# Altium integrated library TI_kbd_pcb.IntLib: 98 symbols
Pins are listed as number, name and electrical type; pins without a type are passive.

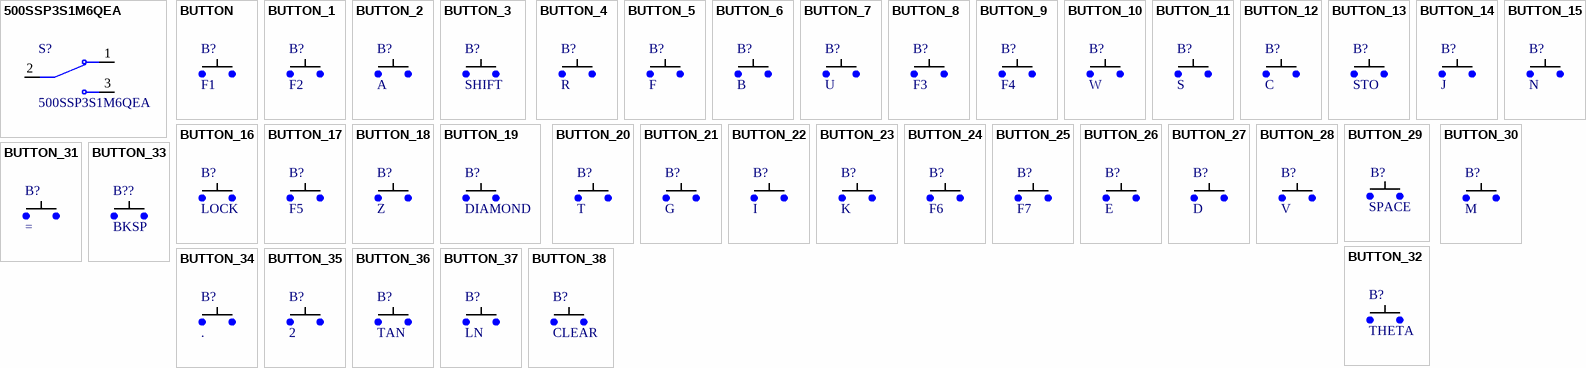
[diagram p0: symbols 500SSP3S1M6QEA to BUTTON_38]

## 500SSP3S1M6QEA
designator S?
Price: None; MP: 500SSP3S1M6QEA; Availability: Unavailable; Value: *; Package: None
footprint SW_500SSP3S1M6QEA
pins: 1 NC, 2 COM, 3 NO

## BUTTON
designator B?, comment F1
Contact pads to match TI-92 PCB patterns for carbon contact button
footprint 6mm_button_contacts
footprint D_PAD_BUTTON
pins: 1, 2

## BUTTON_1
designator B?, comment F2
Contact pads to match TI-92 PCB patterns for carbon contact button
footprint 6mm_button_contacts
footprint D_PAD_BUTTON
pins: 1, 2

## BUTTON_2
designator B?, comment A
Contact pads to match TI-92 PCB patterns for carbon contact button
footprint 6mm_button_contacts
footprint D_PAD_BUTTON
pins: 1, 2

## BUTTON_3
designator B?, comment SHIFT
Contact pads to match TI-92 PCB patterns for carbon contact button
footprint 6mm_button_contacts
footprint D_PAD_BUTTON
pins: 1, 2

## BUTTON_4
designator B?, comment R
Contact pads to match TI-92 PCB patterns for carbon contact button
footprint 6mm_button_contacts
footprint D_PAD_BUTTON
pins: 1, 2

## BUTTON_5
designator B?, comment F
Contact pads to match TI-92 PCB patterns for carbon contact button
footprint 6mm_button_contacts
footprint D_PAD_BUTTON
pins: 1, 2

## BUTTON_6
designator B?, comment B
Contact pads to match TI-92 PCB patterns for carbon contact button
footprint 6mm_button_contacts
footprint D_PAD_BUTTON
pins: 1, 2

## BUTTON_7
designator B?, comment U
Contact pads to match TI-92 PCB patterns for carbon contact button
footprint 6mm_button_contacts
footprint D_PAD_BUTTON
pins: 1, 2

## BUTTON_8
designator B?, comment F3
Contact pads to match TI-92 PCB patterns for carbon contact button
footprint 6mm_button_contacts
footprint D_PAD_BUTTON
pins: 1, 2

## BUTTON_9
designator B?, comment F4
Contact pads to match TI-92 PCB patterns for carbon contact button
footprint 6mm_button_contacts
footprint D_PAD_BUTTON
pins: 1, 2

## BUTTON_10
designator B?, comment W
Contact pads to match TI-92 PCB patterns for carbon contact button
footprint 6mm_button_contacts
footprint D_PAD_BUTTON
pins: 1, 2

## BUTTON_11
designator B?, comment S
Contact pads to match TI-92 PCB patterns for carbon contact button
footprint 6mm_button_contacts
footprint D_PAD_BUTTON
pins: 1, 2

## BUTTON_12
designator B?, comment C
Contact pads to match TI-92 PCB patterns for carbon contact button
footprint 6mm_button_contacts
footprint D_PAD_BUTTON
pins: 1, 2

## BUTTON_13
designator B?, comment STO
Contact pads to match TI-92 PCB patterns for carbon contact button
footprint 6mm_button_contacts
footprint D_PAD_BUTTON
pins: 1, 2

## BUTTON_14
designator B?, comment J
Contact pads to match TI-92 PCB patterns for carbon contact button
footprint 6mm_button_contacts
footprint D_PAD_BUTTON
pins: 1, 2

## BUTTON_15
designator B?, comment N
Contact pads to match TI-92 PCB patterns for carbon contact button
footprint 6mm_button_contacts
footprint D_PAD_BUTTON
pins: 1, 2

## BUTTON_16
designator B?, comment LOCK
Contact pads to match TI-92 PCB patterns for carbon contact button
footprint 6mm_button_contacts
footprint D_PAD_BUTTON
pins: 1, 2

## BUTTON_17
designator B?, comment F5
Contact pads to match TI-92 PCB patterns for carbon contact button
footprint 6mm_button_contacts
footprint D_PAD_BUTTON
pins: 1, 2

## BUTTON_18
designator B?, comment Z
Contact pads to match TI-92 PCB patterns for carbon contact button
footprint 6mm_button_contacts
footprint D_PAD_BUTTON
pins: 1, 2

## BUTTON_19
designator B?, comment DIAMOND
Contact pads to match TI-92 PCB patterns for carbon contact button
footprint 6mm_button_contacts
footprint D_PAD_BUTTON
pins: 1, 2

## BUTTON_20
designator B?, comment T
Contact pads to match TI-92 PCB patterns for carbon contact button
footprint 6mm_button_contacts
footprint D_PAD_BUTTON
pins: 1, 2

## BUTTON_21
designator B?, comment G
Contact pads to match TI-92 PCB patterns for carbon contact button
footprint 6mm_button_contacts
footprint D_PAD_BUTTON
pins: 1, 2

## BUTTON_22
designator B?, comment I
Contact pads to match TI-92 PCB patterns for carbon contact button
footprint 6mm_button_contacts
footprint D_PAD_BUTTON
pins: 1, 2

## BUTTON_23
designator B?, comment K
Contact pads to match TI-92 PCB patterns for carbon contact button
footprint 6mm_button_contacts
footprint D_PAD_BUTTON
pins: 1, 2

## BUTTON_24
designator B?, comment F6
Contact pads to match TI-92 PCB patterns for carbon contact button
footprint 6mm_button_contacts
footprint D_PAD_BUTTON
pins: 1, 2

## BUTTON_25
designator B?, comment F7
Contact pads to match TI-92 PCB patterns for carbon contact button
footprint 6mm_button_contacts
footprint D_PAD_BUTTON
pins: 1, 2

## BUTTON_26
designator B?, comment E
Contact pads to match TI-92 PCB patterns for carbon contact button
footprint 6mm_button_contacts
footprint D_PAD_BUTTON
pins: 1, 2

## BUTTON_27
designator B?, comment D
Contact pads to match TI-92 PCB patterns for carbon contact button
footprint 6mm_button_contacts
footprint D_PAD_BUTTON
pins: 1, 2

## BUTTON_28
designator B?, comment V
Contact pads to match TI-92 PCB patterns for carbon contact button
footprint 6mm_button_contacts
footprint D_PAD_BUTTON
pins: 1, 2

## BUTTON_29
designator B?, comment SPACE
Contact pads to match TI-92 PCB patterns for carbon contact button
footprint 6mm_button_contacts
footprint D_PAD_BUTTON
pins: 1, 2

## BUTTON_30
designator B?, comment M
Contact pads to match TI-92 PCB patterns for carbon contact button
footprint 6mm_button_contacts
footprint D_PAD_BUTTON
pins: 1, 2

## BUTTON_31
designator B?
Contact pads to match TI-92 PCB patterns for carbon contact button
footprint 6mm_button_contacts
footprint D_PAD_BUTTON
pins: 1, 2

## BUTTON_32
designator B?, comment THETA
Contact pads to match TI-92 PCB patterns for carbon contact button
footprint 6mm_button_contacts
footprint D_PAD_BUTTON
pins: 1, 2

## BUTTON_33
designator B??, comment BKSP
Contact pads to match TI-92 PCB patterns for carbon contact button
footprint 6mm_button_contacts
footprint D_PAD_BUTTON
pins: 1, 2

## BUTTON_34
designator B?, comment .
Contact pads to match TI-92 PCB patterns for carbon contact button
footprint 6mm_button_contacts
footprint D_PAD_BUTTON
pins: 1, 2

## BUTTON_35
designator B?, comment 2
Contact pads to match TI-92 PCB patterns for carbon contact button
footprint 6mm_button_contacts
footprint D_PAD_BUTTON
pins: 1, 2

## BUTTON_36
designator B?, comment TAN
Contact pads to match TI-92 PCB patterns for carbon contact button
footprint 6mm_button_contacts
footprint D_PAD_BUTTON
pins: 1, 2

## BUTTON_37
designator B?, comment LN
Contact pads to match TI-92 PCB patterns for carbon contact button
footprint 6mm_button_contacts
footprint D_PAD_BUTTON
pins: 1, 2

## BUTTON_38
designator B?, comment CLEAR
Contact pads to match TI-92 PCB patterns for carbon contact button
footprint 6mm_button_contacts
footprint D_PAD_BUTTON
pins: 1, 2

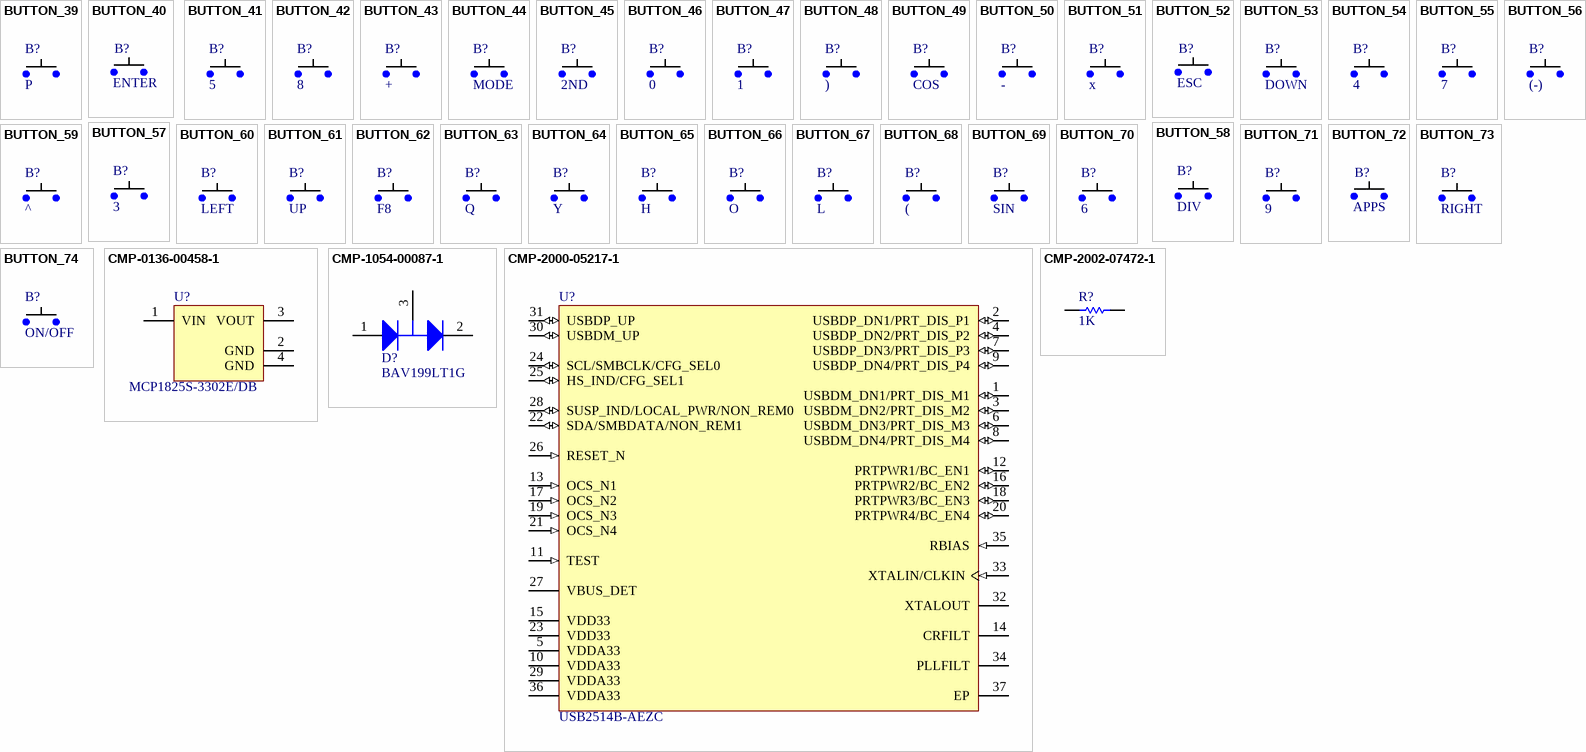
[diagram p1: symbols BUTTON_39 to CMP-2002-07472-1]

## BUTTON_39
designator B?, comment P
Contact pads to match TI-92 PCB patterns for carbon contact button
footprint 6mm_button_contacts
footprint D_PAD_BUTTON
pins: 1, 2

## BUTTON_40
designator B?, comment ENTER
Contact pads to match TI-92 PCB patterns for carbon contact button
footprint 6mm_button_contacts
footprint D_PAD_BUTTON
pins: 1, 2

## BUTTON_41
designator B?, comment 5
Contact pads to match TI-92 PCB patterns for carbon contact button
footprint 6mm_button_contacts
footprint D_PAD_BUTTON
pins: 1, 2

## BUTTON_42
designator B?, comment 8
Contact pads to match TI-92 PCB patterns for carbon contact button
footprint 6mm_button_contacts
footprint D_PAD_BUTTON
pins: 1, 2

## BUTTON_43
designator B?, comment +
Contact pads to match TI-92 PCB patterns for carbon contact button
footprint 6mm_button_contacts
footprint D_PAD_BUTTON
pins: 1, 2

## BUTTON_44
designator B?, comment MODE
Contact pads to match TI-92 PCB patterns for carbon contact button
footprint 6mm_button_contacts
footprint D_PAD_BUTTON
pins: 1, 2

## BUTTON_45
designator B?, comment 2ND
Contact pads to match TI-92 PCB patterns for carbon contact button
footprint 6mm_button_contacts
footprint D_PAD_BUTTON
pins: 1, 2

## BUTTON_46
designator B?, comment 0
Contact pads to match TI-92 PCB patterns for carbon contact button
footprint 6mm_button_contacts
footprint D_PAD_BUTTON
pins: 1, 2

## BUTTON_47
designator B?, comment 1
Contact pads to match TI-92 PCB patterns for carbon contact button
footprint 6mm_button_contacts
footprint D_PAD_BUTTON
pins: 1, 2

## BUTTON_48
designator B?, comment )
Contact pads to match TI-92 PCB patterns for carbon contact button
footprint 6mm_button_contacts
footprint D_PAD_BUTTON
pins: 1, 2

## BUTTON_49
designator B?, comment COS
Contact pads to match TI-92 PCB patterns for carbon contact button
footprint 6mm_button_contacts
footprint D_PAD_BUTTON
pins: 1, 2

## BUTTON_50
designator B?, comment -
Contact pads to match TI-92 PCB patterns for carbon contact button
footprint 6mm_button_contacts
footprint D_PAD_BUTTON
pins: 1, 2

## BUTTON_51
designator B?, comment x
Contact pads to match TI-92 PCB patterns for carbon contact button
footprint 6mm_button_contacts
footprint D_PAD_BUTTON
pins: 1, 2

## BUTTON_52
designator B?, comment ESC
Contact pads to match TI-92 PCB patterns for carbon contact button
footprint 6mm_button_contacts
footprint D_PAD_BUTTON
pins: 1, 2

## BUTTON_53
designator B?, comment DOWN
Contact pads to match TI-92 PCB patterns for carbon contact button
footprint 6mm_button_contacts
footprint D_PAD_BUTTON
pins: 1, 2

## BUTTON_54
designator B?, comment 4
Contact pads to match TI-92 PCB patterns for carbon contact button
footprint 6mm_button_contacts
footprint D_PAD_BUTTON
pins: 1, 2

## BUTTON_55
designator B?, comment 7
Contact pads to match TI-92 PCB patterns for carbon contact button
footprint 6mm_button_contacts
footprint D_PAD_BUTTON
pins: 1, 2

## BUTTON_56
designator B?, comment (-)
Contact pads to match TI-92 PCB patterns for carbon contact button
footprint 6mm_button_contacts
footprint D_PAD_BUTTON
pins: 1, 2

## BUTTON_57
designator B?, comment 3
Contact pads to match TI-92 PCB patterns for carbon contact button
footprint 6mm_button_contacts
footprint D_PAD_BUTTON
pins: 1, 2

## BUTTON_58
designator B?, comment DIV
Contact pads to match TI-92 PCB patterns for carbon contact button
footprint 6mm_button_contacts
footprint D_PAD_BUTTON
pins: 1, 2

## BUTTON_59
designator B?, comment ^
Contact pads to match TI-92 PCB patterns for carbon contact button
footprint 6mm_button_contacts
footprint D_PAD_BUTTON
pins: 1, 2

## BUTTON_60
designator B?, comment LEFT
Contact pads to match TI-92 PCB patterns for carbon contact button
footprint 6mm_button_contacts
footprint D_PAD_BUTTON
pins: 1, 2

## BUTTON_61
designator B?, comment UP
Contact pads to match TI-92 PCB patterns for carbon contact button
footprint 6mm_button_contacts
footprint D_PAD_BUTTON
pins: 1, 2

## BUTTON_62
designator B?, comment F8
Contact pads to match TI-92 PCB patterns for carbon contact button
footprint 6mm_button_contacts
footprint D_PAD_BUTTON
pins: 1, 2

## BUTTON_63
designator B?, comment Q
Contact pads to match TI-92 PCB patterns for carbon contact button
footprint 6mm_button_contacts
footprint D_PAD_BUTTON
pins: 1, 2

## BUTTON_64
designator B?, comment Y
Contact pads to match TI-92 PCB patterns for carbon contact button
footprint 6mm_button_contacts
footprint D_PAD_BUTTON
pins: 1, 2

## BUTTON_65
designator B?, comment H
Contact pads to match TI-92 PCB patterns for carbon contact button
footprint 6mm_button_contacts
footprint D_PAD_BUTTON
pins: 1, 2

## BUTTON_66
designator B?, comment O
Contact pads to match TI-92 PCB patterns for carbon contact button
footprint 6mm_button_contacts
footprint D_PAD_BUTTON
pins: 1, 2

## BUTTON_67
designator B?, comment L
Contact pads to match TI-92 PCB patterns for carbon contact button
footprint 6mm_button_contacts
footprint D_PAD_BUTTON
pins: 1, 2

## BUTTON_68
designator B?, comment (
Contact pads to match TI-92 PCB patterns for carbon contact button
footprint 6mm_button_contacts
footprint D_PAD_BUTTON
pins: 1, 2

## BUTTON_69
designator B?, comment SIN
Contact pads to match TI-92 PCB patterns for carbon contact button
footprint 6mm_button_contacts
footprint D_PAD_BUTTON
pins: 1, 2

## BUTTON_70
designator B?, comment 6
Contact pads to match TI-92 PCB patterns for carbon contact button
footprint 6mm_button_contacts
footprint D_PAD_BUTTON
pins: 1, 2

## BUTTON_71
designator B?, comment 9
Contact pads to match TI-92 PCB patterns for carbon contact button
footprint 6mm_button_contacts
footprint D_PAD_BUTTON
pins: 1, 2

## BUTTON_72
designator B?, comment APPS
Contact pads to match TI-92 PCB patterns for carbon contact button
footprint 6mm_button_contacts
footprint D_PAD_BUTTON
pins: 1, 2

## BUTTON_73
designator B?, comment RIGHT
Contact pads to match TI-92 PCB patterns for carbon contact button
footprint 6mm_button_contacts
footprint D_PAD_BUTTON
pins: 1, 2

## BUTTON_74
designator B?, comment ON/OFF
Contact pads to match TI-92 PCB patterns for carbon contact button
footprint 6mm_button_contacts
footprint D_PAD_BUTTON
pins: 1, 2

## CMP-0136-00458-1
designator U?, comment MCP1825S-3302E/DB
500 mA, Low Voltage, Low Quiescent Current LDO Regulator, 3-Pin SOT-223, Extended Temperature; Manufacturer: Microchip; PackageReference: SOT-223-DB3; PackageDescription: 3-Lead Plastic Small Outline Transistor (DB) [SOT-223]; PackageVersion: revBB, Aug-2009; DatasheetVersion: revB, Feb-2008; Manufacturer Part Number: MCP1825S-3302E/DB
footprint SOT-223-DB3_N (SOT223, 4-Leads, Body 6.5x3.5mm, Pitch 2.3mm, Lead Span 7mm, IPC Medium Density)
footprint SOT-223-DB3_L (SOT223, 4-Leads, Body 6.5x3.5mm, Pitch 2.3mm, Lead Span 7mm, IPC High Density)
footprint SOT-223-DB3_M (SOT223, 4-Leads, Body 6.5x3.5mm, Pitch 2.3mm, Lead Span 7mm, IPC Low Density)
pins: 1 VIN (power), 2 GND (power), 3 VOUT (power), 4 GND (power)

## CMP-1054-00087-1
designator D?, comment BAV199LT1G
Dual Series Switching Diodes, 3-Pin SOT-23, Pb-Free, Tape and Reel; Manufacturer: On Semiconductor; IF Max (A): 0.215; trr Max (ns): 3000; PartNumber: BAV199LT1G; RoHS: TRUE; ComponentLink1Description: Manufacturer URL; ComponentLink2URL: http://www.onsemi.com/pub_link/Collateral/BAV199LT1-D.PDF; Mounting Technology: Surface Mount; ComponentLink2Description: Datasheet; ComponentLink3Description: Package Specification; PackageReference: SOT-23-3-318-08; PackageVersion: Rev. AP, 11/2009; Packing: Tape and Reel; DatasheetVersion: Rev. 8; Configuration: Dual Series; ComponentLink1URL: http://www.onsemi.com/; ComponentLink3URL: http://www.onsemi.cn/pub_link/Collateral/318-08.PDF; PackageDescription: 3-Pin Small Outline Transistor, Body 2.92 x 1.3 mm, Pitch 0.95 mm; Manufacturer: ON Semiconductor; Manufacturer Part Number: BAV199LT1G
footprint ONSC-SOT-23-3-318-08_V (SOT23, 3-Leads, Body 2.92x1.3mm, Pitch 0.95mm)
pins: 1 A, 2 K, 3 K/A

## CMP-2000-05217-1
designator U?, comment USB2514B-AEZC
USB 2.0 High-Speed Hub Controller, 4 Ports, 3 to 3.6 V, 0 to 85 degC, 36-Pin QFN, RoHS, Tray; Manufacturer: Microchip; Interface: I²CEEPROM,SMBus(2-Wire,I²C); Other Names: 638-1122; Voltage - Supply: 3V~3.6V; Current - Supply: 70mA; Manufacturer URL: http://www.microchip.com/; Packaging: Tray; Function: -; Standards: -; Category: IntegratedCircuits(ICs); Package / Case: 36-VFQFNExposedPad; Supplier Device Package: 36-QFN(6x6); Family: Interface-Controllers; Datasheet Version: DS00001692C, 10/2015; Standard Package: 490; Series: -; Protocol: -; Datasheet URL: http://ww1.microchip.com/downloads/en/DeviceDoc/00001692C.pdf; Operating Temperature: -; Manufacturer Part Number: USB2514B-AEZC
footprint MCHP-QFN-36_V (QFN, 36-Leads, Body 6.00x6.00mm, Pitch 0.50mm, Thermal Pad 3.70x3.70mm)
pins: 1 USBDM_DN1/PRT_DIS_M1 (io), 2 USBDP_DN1/PRT_DIS_P1 (io), 3 USBDM_DN2/PRT_DIS_M2 (io), 4 USBDP_DN2/PRT_DIS_P2 (io), 5 VDDA33 (power) "3.3 V Analog Power", 6 USBDM_DN3/PRT_DIS_M3 (io), 7 USBDP_DN3/PRT_DIS_P3 (io), 8 USBDM_DN4/PRT_DIS_M4 (io), 9 USBDP_DN4/PRT_DIS_P4 (io), 10 VDDA33 (power) "3.3 V Analog Power", 11 TEST (in) "Test Pin: treat as a no connect pin or connect to ground. No trace or signal should be routed or attached to this pin.", 12 PRTPWR1/BC_EN1 (io), 13 OCS_N1 (in) "Over-Current Sense: input from external current monitor indicating an overcurrent condition.", 14 CRFILT "VDD Core Regulator Filter Capacitor: this pin can have up to a 0.1 uF low-ESR capacitor to VSS, or be left unconnected.", 15 VDD33 (power) "3.3 V Digital Power", 16 PRTPWR2/BC_EN2 (io), 17 OCS_N2 (in) "Over-Current Sense: input from external current monitor indicating an overcurrent condition.", 18 PRTPWR3/BC_EN3 (io), 19 OCS_N3 (in) "Over-Current Sense: input from external current monitor indicating an overcurrent condition.", 20 PRTPWR4/BC_EN4 (io), 21 OCS_N4 (in) "Over-Current Sense: input from external current monitor indicating an overcurrent condition.", 22 SDA/SMBDATA/NON_REM1 (io), 23 VDD33 (power) "3.3 V Digital Power", 24 SCL/SMBCLK/CFG_SEL0 (io), 25 HS_IND/CFG_SEL1 (io), 26 RESET_N (in) "RESET Input: the system can reset the chip by driving this input low. The minimum active low pulse is 1 us.", 27 VBUS_DET (power) "Detect Upstream VBUS Power: detects the state of the upstream VBUS power. The SMSC hub monitors VBUS_DET to determine when to assert the internal D+ pull-up resistor: (signaling a connect event). When designing a detachable (See Datasheet)", 28 SUSP_IND/LOCAL_PWR/NON_REM0 (io), 29 VDDA33 (power) "3.3 V Analog Power", 30 USBDM_UP (io) "USB Data: connect to the upstream USB bus data signals (host, port, or upstream hub).", 31 USBDP_UP (io) "USB Data: connect to the upstream USB bus data signals (host, port, or upstream hub).", 32 XTALOUT "Crystal Output: this is the other terminal of the crystal circuit with 1.2 V p-p output and a weak (< 1mA) driving strength. When an external clock source is used to drive XTALIN/CLKIN, leave this pin unconnected, or use (See Datasheet)", 33 XTALIN/CLKIN (in), 34 PLLFILT "PLL Regulator Filter Capacitor: this pin can have up to a 0.1 uF low-ESR capacitor to VSS, or be left unconnected.", 35 RBIAS (in) "USB Transceiver Bias: a 12.0 kohm (+/- 1%) resistor is attached from ground to this pin to set the transceiver’s internal bias settings.", 36 VDDA33 (power) "3.3 V Analog Power", 37 EP (power) "Ground Pad/ePad: the package slug is the only VSS for the device and must be tied to ground with multiple vias."

## CMP-2002-07472-1
designator R?, comment 1K
Part Number: RC0402FR-071KL; Manufacturer: Yageo / Phycomp; Manufacturer: Yageo; Manufacturer Part Number: RC0402FR-071KL
footprint RESC1005X40X25NL05T10 (Chip Resistor, 2-Leads, Body 1.00x0.50mm, IPC Medium Density)
footprint RESC1005X40X25ML05T10 (Chip Resistor, 2-Leads, Body 1.00x0.50mm, IPC Low Density)
footprint RESC1005X40X25LL05T10 (Chip Resistor, 2-Leads, Body 1.00x0.50mm, IPC High Density)
pins: 1, 2
1 alternate drawing of the same symbol

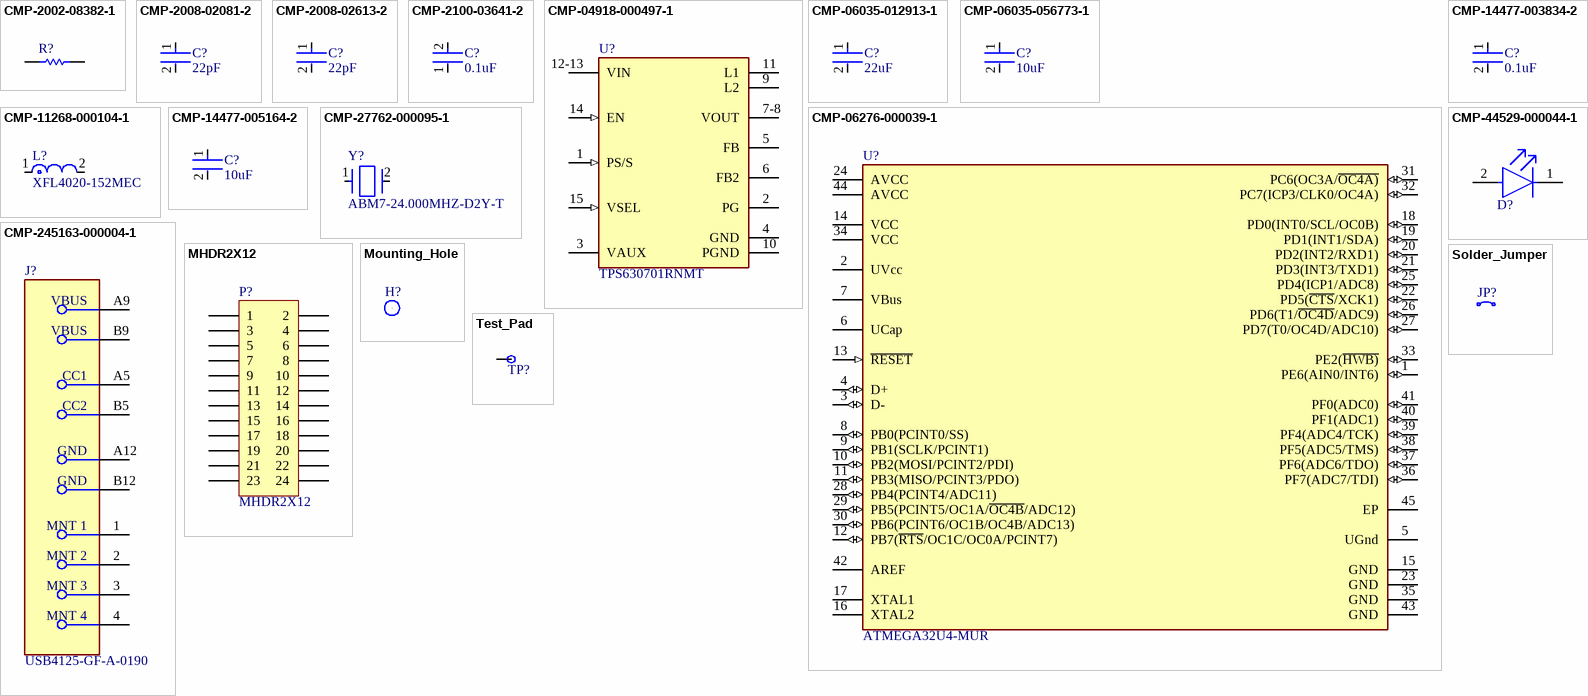
[diagram p2: symbols CMP-2002-08382-1 to Test_Pad]

## CMP-2002-08382-1
designator R?, comment CRCW040222R0FKED  (value not drawn)
Manufacturer: Vishay Dale; Manufacturer: Vishay; Part Number: CRCW040222R0FKED; Manufacturer Part Number: CRCW040222R0FKED
footprint RESC1005X40X25LL05T05 (Chip Resistor, 2-Leads, Body 1.00x0.50mm, IPC High Density)
footprint RESC1005X40X25ML05T05 (Chip Resistor, 2-Leads, Body 1.00x0.50mm, IPC Low Density)
footprint RESC1005X40X25NL05T05 (Chip Resistor, 2-Leads, Body 1.00x0.50mm, IPC Medium Density)
pins: 1, 2
1 alternate drawing of the same symbol

## CMP-2008-02081-2
designator C?, comment 22pF
CAP CER 1UF 10V X5R 0402; Manufacturer: KEMET; Manufacturer Part Number: C0402C105K8PACTU; Dielectric Material: Ceramic; Dissipation Factor: 5%; Tolerance: 10%; Number of Pins: 2; Contact Plating: Tin; Min Operating Temperature: -55°C; Termination: SMD/SMT; Lead Free: Lead Free; Construction: Flat; Voltage Rating (DC): 10V; Mount: Surface Mount; Series: C; Thickness: 0.022inch; Width: 0.5mm; Radiation Hardening: No; Capacitance: 1uF; Dielectric: X5R; Height: 0.5mm; Voltage: 10V; Length: 1mm; Depth: 0.5mm; Max Operating Temperature: 85°C; Package Quantity: 1; Packaging: Tape and Reel; RoHS Compliant: Yes; Case Code (Imperial): 0402; Case Code (Metric): 1005; REACH SVHC: No SVHC; Voltage Rating: 10V; Case/Package: 0402
footprint FP-C0402C105K8PACTU-MFG
footprint FP-C0402C105K8PACTU-IPC_C
footprint FP-C0402C105K8PACTU-IPC_B
footprint FP-C0402C105K8PACTU-IPC_A
pins: 1, 2

## CMP-2008-02613-2
designator C?, comment 22pF
General Purpose Ceramic Capacitor, 0402, 22pF, 5%, C0G, 30ppm/°C, 50V; Manufacturer: Kyocera AVX; Manufacturer Part Number: 04025A220JAT2A; Temperature Coefficient: 30ppm/°C; Mount: Surface Mount; Length: 1mm; Construction: Flat; Contact Plating: Tin; REACH SVHC: No SVHC; Case/Package: 0402; Voltage: 50V; Case Code (Imperial): 0402; Thickness: 0.022inch; Radiation Hardening: No; Number of Pins: 2; Tolerance: 5%; Max Operating Temperature: 125°C; RoHS Compliant: Yes; Voltage Rating: 50V; Case Code (Metric): 1005; Package Quantity: 1; Width: 0.02inch; Termination: SMD/SMT; Lead Free: Lead Free; Height: 0.5mm; Voltage Rating (DC): 50V; Capacitance: 22pF; Min Operating Temperature: -55°C; Series: -; Depth: 0.5mm; Dielectric: C0G; Packaging: Tape and Reel
footprint FP-0402-L_1_0_1-W_0_5_0_1-MFG
footprint FP-0402-L_1_0_1-W_0_5_0_1-IPC_C
footprint FP-0402-L_1_0_1-W_0_5_0_1-IPC_A
footprint FP-0402-L_1_0_1-W_0_5_0_1-IPC_B
pins: 1, 2

## CMP-2100-03641-2
designator C?, comment 0.1uF
CAP CER 0.1UF 16V X7R 0402; Manufacturer Part Number: GRM155R71C104KA88D; Manufacturer: Murata; Standoff Height: 0mm; Tolerance: 10%; Voltage Rating: 16Vdc; Material: Ceramic; Capacitance: 0.10μF; Value: 0.10μF; RoHS: TRUE; Temperature Characteristic: X7R; Octopart: https://octopart.com/grm155r71c104ka88d-murata-196880; Digikey Description: CAP CER 0.1UF 16V X7R 0402; Device Class L3: Ceramic Capacitors; Height: 0.55mm; ComponentLink2Description: Datasheet; Temperature Range Low: -55°C; Ipc Land Pattern Name: CAPC10050X219; ComponentLink2URL: https://search.murata.co.jp/Ceramy/image/img/A01X/G101/ENG/GRM155R71H471KA01-01A.pdf; Device Class L1: Passive Components; Lead Free: yes; Category: Cap; Package: GRM15; Temperature: -55°C to +125°C; Device Class L2: Capacitors; Temperature Range High: +125°C; Mouser Description: 0402 0.1 uF 16V ±10 % Tolerance X7R SMT Multilayer Ceramic Capacitor
footprint FP-GRM15-MFG
footprint FP-GRM15-IPC_C
footprint FP-GRM15-IPC_B
footprint FP-GRM15-IPC_A
pins: 1, 2

## CMP-04918-000497-1
designator U?, comment TPS630701RNMT
IC REG BCK BST 5V 2A 15VQFN; Manufacturer: Texas Instruments; Max Input Voltage: 16V; Switching Frequency: 2.4MHz; Min Input Voltage: 2V; Quiescent Current: 50uA; Topology: Buck-Boost; Output Current: 2A; Number of Pins: 15; Max Operating Temperature: 125°C; Packaging: Cut Tape; Nominal Output Voltage: 5V; REACH SVHC: No SVHC; RoHS Compliant: Yes; Lead Free: Lead Free; Manufacturer Part Number: TPS630701RNMT
footprint FP-RNM0015A-MFG
pins: 1 PS/S (in), 2 PG (oc), 3 VAUX, 4 GND (power), 5 FB, 6 FB2, 7-8 VOUT (power), 9 L2, 10 PGND (power), 11 L1, 12-13 VIN (power), 14 EN (in), 15 VSEL (in)

## CMP-06035-012913-1
designator C?, comment 22uF
Chip Multilayer Ceramic Capacitors for General Purpose, 0805, 22uF, X6S, 22%, 20%, 16V; Manufacturer: Murata; Manufacturer Part Number: GRM21BC81C226ME44L; Packaging: Tape and Reel; Dielectric: X6S; Case Code (Imperial): 0805; Weight: 0.000335oz; Case Code (Metric): 2012; Thickness: 0.057inch; Min Operating Temperature: -55°C; Voltage Rating (DC): 16V; Tolerance: 20%; Width: 1.25mm; Voltage Rating: 16V; Mount: Surface Mount; Capacitance: 22uF; Length: 0.079inch; Lead Free: Lead Free; Case/Package: 0805; Package Quantity: 3000; Height: 1.25mm; Max Operating Temperature: 105°C; Termination: SMD/SMT
footprint FP-GRM21B-0_2-e0_2_0_7-MFG
footprint FP-GRM21B-0_2-e0_2_0_7-IPC_A
footprint FP-GRM21B-0_2-e0_2_0_7-IPC_C
footprint FP-GRM21B-0_2-e0_2_0_7-IPC_B
pins: 1, 2

## CMP-06035-056773-1
designator C?, comment 10uF
Chip Multilayer Ceramic Capacitors for General Purpose, 0805, 10uF, X7S, 22%, 20%, 25V; Manufacturer: Murata; Manufacturer Part Number: GRM21BC71E106ME11L; Case/Package: 0805; Min Operating Temperature: -55°C; Packaging: Tape and Reel; Height: 1.25mm; Thickness: 0.057inch; Weight: 0.000335oz; Termination: SMD/SMT; Capacitance: 10uF; Max Operating Temperature: 125°C; Length: 0.079inch; Dielectric: X7S; Mount: Surface Mount; Voltage Rating (DC): 25V; Case Code (Imperial): 0805; Case Code (Metric): 2012; Voltage Rating: 25V; Tolerance: 20%; Package Quantity: 3000; Width: 0.049inch
footprint FP-GRM21B-0_2-e0_2_0_7-IPC_A
footprint FP-GRM21B-0_2-e0_2_0_7-IPC_C
footprint FP-GRM21B-0_2-e0_2_0_7-IPC_B
footprint FP-GRM21B-0_2-e0_2_0_7-MFG
pins: 1, 2

## CMP-06276-000039-1
designator U?, comment ATMEGA32U4-MUR
IC MCU 8BIT 32KB FLASH 44VQFN; Manufacturer: Microchip; Oscillator Type: Internal; Interface: I2C; Core Architecture: PIC; Number of I/Os: 21; Peripherals: Brown-out Detect/Reset; Packaging: Rail/Tube; Memory Size: 32KB; Memory Type: FLASH; Case/Package: SOIC; Max Operating Temperature: 125°C; Min Operating Temperature: -40°C; Manufacturer Part Number: ATMEGA32U4-MUR
footprint FP-44PW-MFG
footprint FP-44PW-IPC_C
footprint FP-44PW-IPC_B
footprint FP-44PW-IPC_A
pins: 1 PE6(AIN0/INT6) (io), 2 UVcc (power), 3 D- (io), 4 D+ (io), 5 UGnd (power), 6 UCap, 7 VBus (power), 8 PB0(PCINT0/SS) (io), 9 PB1(SCLK/PCINT1) (io), 10 PB2(MOSI/PCINT2/PDI) (io), 11 PB3(MISO/PCINT3/PDO) (io), 12 PB7(~{RTS}/OC1C/OC0A/PCINT7) (io), 13 ~{RESET} (in), 14 VCC (power), 15 GND (power), 16 XTAL2, 17 XTAL1, 18 PD0(INT0/SCL/OC0B) (io), 19 PD1(INT1/SDA) (io), 20 PD2(INT2/RXD1) (io), 21 PD3(INT3/TXD1) (io), 22 PD5(~{CTS}/XCK1) (io), 23 GND (power), 24 AVCC (power), 25 PD4(ICP1/ADC8) (io), 26 PD6(T1/~{OC4D}/ADC9) (io), 27 PD7(T0/OC4D/ADC10) (io), 28 PB4(PCINT4/ADC11) (io), 29 PB5(PCINT5/OC1A/~{OC4B}/ADC12) (io), 30 PB6(PCINT6/OC1B/OC4B/ADC13) (io), 31 PC6(OC3A/~{OC4A)} (io), 32 PC7(ICP3/CLK0/OC4A) (io), 33 PE2(~{HWB)} (io), 34 VCC (power), 35 GND (power), 36 PF7(ADC7/TDI) (io), 37 PF6(ADC6/TDO) (io), 38 PF5(ADC5/TMS) (io), 39 PF4(ADC4/TCK) (io), 40 PF1(ADC1) (io), 41 PF0(ADC0) (io), 42 AREF, 43 GND (power), 44 AVCC (power), 45 EP

## CMP-11268-000104-1
designator L?, comment XFL4020-152MEC
Inductor Power Shielded Wirewound 1.5uH 20% 100KHz 9.1A 15.8mOhm DCR 1515 Automotive Embossed Plastic T/R; Manufacturer: Coilcraft; Core Material: Composite; DC Resistance (DCR): 15.8mR; Saturation Current: 4.1A; Self Resonant Frequency: 59MHz; Tolerance: 20%; Inductance: 1.5uH; Max DC Current: 9.1A; RoHS Compliant: Yes; Max Operating Temperature: 125°C; Length: 4.3mm; Case/Package: SMD/SMT; Mount: Surface Mount; Shielding: Shielded; Min Operating Temperature: -40°C; RMS Current (Irms): 9.1A; Test Frequency: 100kHz; Inductance Tolerance: 20%; REACH SVHC: No SVHC; Packaging: Tape and Reel; Termination: SMD/SMT; Lead Free: Contains Lead; Width: 4.3mm; Series: XFL4020; Height: 2.1mm; Manufacturer Part Number: XFL4020-152MEC
footprint FP-XFL4020-MFG
pins: 1, 2

## CMP-14477-003834-2
designator C?, comment 0.1uF
None; Manufacturer: Taiyo Yuden; Manufacturer Part Number: TMK105B7104MV-FR; Capacitance: 100nF; Voltage Rating: 25V; Tolerance: 20%; Min Operating Temperature: -55°C; Max Operating Temperature: 125°C; Mount: Surface Mount; RoHS Compliant: Yes; Case/Package: 0402; Packaging: Tape and Reel
footprint FP-0402-L_1_0_0_05-W_0_5-IPC_B
simulation model TMK105B7104_V-FR
footprint FP-0402-L_1_0_0_05-W_0_5-MFG
footprint FP-0402-L_1_0_0_05-W_0_5-IPC_A
footprint FP-0402-L_1_0_0_05-W_0_5-IPC_C
pins: 1, 2

## CMP-14477-005164-2
designator C?, comment 10uF
Multilayer Ceramic Capacitor 10uF 25V X5R 20% SMD 0603 T/R; Manufacturer: Taiyo Yuden; Manufacturer Part Number: TMK107BBJ106MA-T; Capacitance: 10uF; Packaging: Tape and Reel; Tolerance: 20%; Mount: Surface Mount; Case Code (Metric): 1608; Case Code (Imperial): 0603; Min Operating Temperature: -55°C; Lead Free: Lead Free; RoHS Compliant: Yes; Case/Package: 0603; Max Operating Temperature: 85°C; Voltage Rating: 25V
footprint FP-0603-L_1_6_0_2-W_0_8_0-MFG
footprint FP-0603-L_1_6_0_2-W_0_8_0-IPC_C
footprint FP-0603-L_1_6_0_2-W_0_8_0-IPC_B
footprint FP-0603-L_1_6_0_2-W_0_8_0-IPC_A
pins: 1, 2

## CMP-27762-000095-1
designator Y?, comment ABM7-24.000MHZ-D2Y-T
Crystal 16MHz ±20ppm 18pF SMD-2 6mm x 3.5mm; Manufacturer: Abracon; Manufacturer Part Number: ABM7-16.000MHZ-D2Y-T; ESR (Equivalent Series Resistance): 50R; Frequency Stability: 30ppm; Width: 3.3mm; Frequency: 16MHz; Radiation Hardening: No; Height: 0.055inch; Tolerance: 20ppm; Length: 6mm; Case/Package: CSMD; Lead Free: Lead Free; Min Operating Temperature: -40°C; Termination: SMD/SMT; Operating Frequency: 16 MHz; Resistor Type: Ceramic; Packaging: Tape and Reel; Mount: Surface Mount; Load Capacitance: 18pF; Frequency Tolerance: 20ppm; Depth: 3.5mm; Series: ABM7; Package Quantity: 1000; Max Operating Temperature: 85°C; Number of Pins: 2
footprint FP-ABM7-MFG
pins: 1, 2

## CMP-44529-000044-1
designator D?, comment APHHS1005CGCK  (value not drawn)
LED GREEN CLEAR CHIP SMD; Manufacturer: Kingbright; Viewing Angle: 120°; Dominant Wavelength: 570nm; Test Current: 20mA; Luminous Intensity: 50mcd; Forward Voltage: 2.1V; Number of LEDs: 1; Lens Color: Clear; Packaging: Tape and Reel; Max Operating Temperature: 85°C; Illumination Color: Green; Length: 1mm; Mount: Surface Mount; Lens Style: Clear; Color: Green; Number of Pins: 2; Wavelength: 570nm; Case/Package: 0402; Width: 0.5mm; Package Quantity: 2000; Case Code (Metric): 1005; Height: 0.6mm; Lead Free: Lead Free; Case Code (Imperial): 0402; Forward Current: 20mA; Min Operating Temperature: -40°C; Manufacturer Part Number: APHHS1005CGCK
footprint FP-APHHS1005CGCK-MFG
pins: 1 C, 2 A

## CMP-245163-000004-1
designator J?, comment USB4125-GF-A-0190
CONN RCPT TYPE C 6P SMD RA; Manufacturer: Global Connector Technology; Manufacturer Part Number: USB4125-GF-A-0190
footprint FP-USB4125-GF-A-0190-MFG
pins: 1 MNT 1, 2 MNT 2, 3 MNT 3, 4 MNT 4, A5 CC1, A9 VBUS, A12 GND, B5 CC2, B9 VBUS, B12 GND

## MHDR2X12
designator P?
Header, 12-Pin, Dual row; LatestRevisionDate: 17-Jul-2002; LatestRevisionNote: Re-released for DXP Platform.; Publisher: Altium Limited
footprint MHDR2X12 (Connector; Header; 12x2 Position)
signal-integrity model Connector
footprint 24_pin_Right_Angle_SMT_Header (Wurth 610112249121)
pins: 1, 2, 3, 4, 5, 6, 7, 8, 9, 10, 11, 12, 13, 14, 15, 16, 17, 18, 19, 20, 21, 22, 23, 24

## Mounting_Hole
designator H?, comment Mounting Hole  (value not drawn)
Various Mounting Holes
footprint 1.5mm_hole
footprint 2.4mm_HOLE
footprint 2.7mm_HOLE
pins: 1 HOLE

## Solder_Jumper
designator JP?, comment Solder Jumper  (value not drawn)
Solder Jumpers, open and closed
footprint SOLDER_JUMPER_CLOSED
footprint SOLDER_JUMPER_OPEN
pins: 1, 2

## Test_Pad
designator TP?, comment Test Pad  (value not drawn)
Various Test Pads
footprint 1.0mm_Pad
footprint 1.5MM_PAD
footprint 2.5MM_PAD
footprint 10mm_x_8mm_PAD
footprint 10mm_x_10mm_PAD
pins: 1 PAD